# Altium footprint library 100ASK_STM32F103_MINI.PcbLib: 20 footprints (part 2 of 2)
Each footprint in its own frame and in the unit in brackets; x right, y up, seen from the top. Pads: shape width x height; smd on the part's side, far side on the other; paste and mask are expansions set on the pad; w line width, h text height; cw(c..) or ccw(c..) is an arc to the next point about the centre after c.
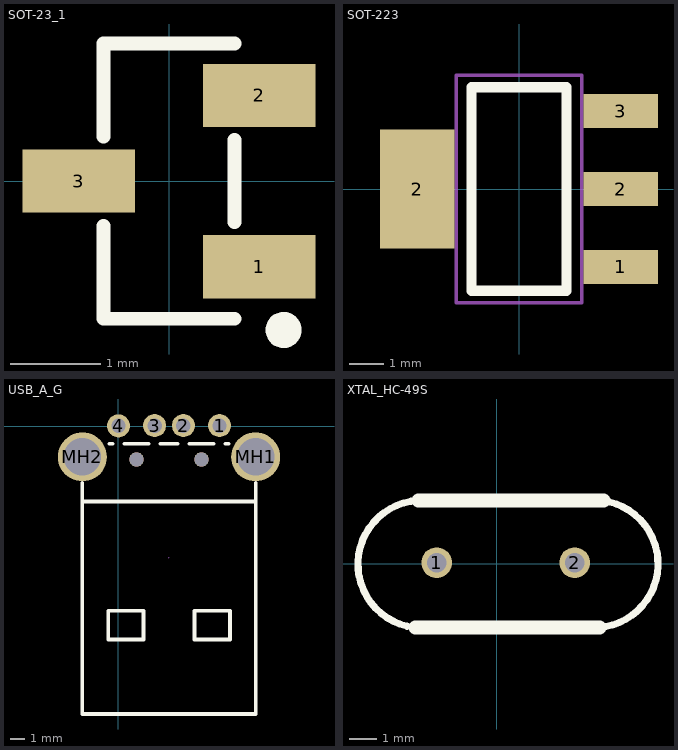
[diagram p1: the footprints below, top view; thin cyan lines are the x and y axes]

## SOT-23_1 [mm]
pads (3):
  rect 1.25x0.7 smd: 1(1,-0.95) 2(1,0.95) 3(-1,0)
Top Overlay:
  circle w0.2: c1.27,-1.651 r0.1
  lines w0.152: -0.726,-0.495 -0.726,-1.526 0.726,-1.526 ; -0.726,0.495 -0.726,1.526 0.726,1.526 ; 0.726,-0.455 0.726,0.455

## SOT-223 [mm]
pads (4):
  rect 2.2x1 smd: 1(3,-2.3) 2(3,0) 3(3,2.3)
  rect 2.2x3.5 smd: 2(-3,0)
Top Overlay:
  lines w0.305: -1.4,-3 1.4,-3 1.4,3 -1.4,3 -1.4,-3
Mechanical 13:
  lines w0.1: -1.85,-3.35 -1.85,3.35 1.85,3.35 1.85,-3.35 -1.85,-3.35
3D body "TO-223.STEP": height 1.64, standoff -0.04, extent -3.49,-3.242 3.49,3.243

## USB_A_G [mm]
pads (8):
  round 1.6 hole 1: 1(7.009,0.043) 2(4.509,0.042) 3(2.509,0.042) 4(0.009,0.02)
  round 3.4 hole 2.6: MH1(9.509,-2.127) MH2(-2.491,-2.127)
  round 1 hole 1 unplated: ""(1.259,-2.308) ""(5.759,-2.308)
Top Overlay:
  lines w0.254: -2.498,-5.224 9.515,-5.224 ; -2.498,-3.919 -2.498,-19.939 9.515,-19.939 9.515,-3.924 ; -0.608,-1.225 -0.39,-1.225 ; 0.407,-1.225 2.111,-1.225 ; 2.907,-1.225 4.111,-1.225 ; 4.907,-1.225 6.611,-1.225 ; 7.407,-1.225 7.626,-1.225 ; -0.707,-14.776 1.74,-14.776 1.74,-12.776 -0.707,-12.776 -0.707,-14.776 ; 5.277,-14.776 7.739,-14.776 7.739,-12.776 5.277,-12.776 5.277,-14.776
Mechanical 15:
  lines w0.003: 3.484,-9.129 3.534,-9.078
3D body "USB-AM-S-F-B-TH.STEP": height 4.52, standoff -1.18, extent -2.44,-19.764 10.06,0.266

## XTAL_HC-49S [mm]
pads (2):
  round 1.1 hole 0.7: 1(-2.157,0.035) 2(2.796,0.035)
Top Overlay:
  lines w0.254: -2.956,-2.294 cw(c-2.688,-0.02) -2.815,2.266 ; 3.625,-2.296 ccw(c3.498,-0.01) 3.766,2.264
  lines w0.5: -2.922,-2.289 3.682,-2.289 ; -2.815,2.266 3.84,2.266
3D body "SW3dPS-HP49US.STEP": height 3.5, standoff -4, extent -5.294,-2.364 6.056,2.286